# Altium footprint library LMZM23601V5SILR.PcbLib: 1 footprints
Each footprint in its own frame and in the unit in brackets; x right, y up, seen from the top. Pads: shape width x height; smd on the part's side, far side on the other; paste and mask are expansions set on the pad; w line width, h text height; cw(c..) or ccw(c..) is an arc to the next point about the centre after c.
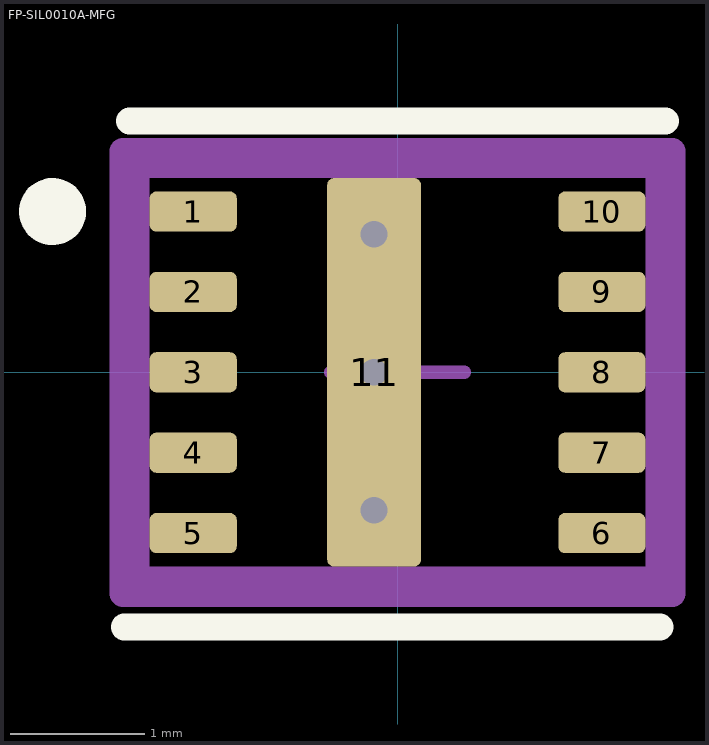
[diagram p0: the footprint, top view; thin cyan lines are the x and y axes]

## FP-SIL0010A-MFG [mm]
pads (11):
  rrect33% 0.65x0.3 smd paste+0 mask+0: 1(-1.525,1.2) 2(-1.525,0.6) 3(-1.525,0) 4(-1.525,-0.6) 5(-1.525,-1.2) 6(1.525,-1.2) 7(1.525,-0.6) 8(1.525,0) 9(1.525,0.6) 10(1.525,1.2)
  rrect14% 0.7x2.9 smd paste-1000 mask+0: 11(-0.175,0)
via -0.175,1.03 diameter 0.5 hole 0.2
via -0.175,0 diameter 0.5 hole 0.2
via -0.175,-1.03 diameter 0.5 hole 0.2
Top Overlay:
  circle w0.25: c-2.575,1.2 r0.125
  lines w0.2: -2.04,-1.9 1.96,-1.9 ; -2,1.875 2,1.875
Top Paste:
  region: 0.175,1.396 0.175,0.663 0.175,0.654 0.167,0.635 0.153,0.621 0.135,0.613 0.125,0.613 -0.475,0.613 -0.485,0.613 -0.503,0.621 -0.517,0.635 -0.525,0.654 -0.525,0.663 -0.525,1.396 -0.525,1.406 -0.517,1.425 -0.503,1.439 -0.485,1.446 -0.475,1.446 0.125,1.446 0.135,1.446 0.153,1.439 0.167,1.425 0.175,1.406
  region: -0.475,-0.416 -0.485,-0.416 -0.503,-0.409 -0.517,-0.395 -0.525,-0.376 -0.525,-0.366 -0.525,0.366 -0.525,0.376 -0.517,0.395 -0.503,0.409 -0.485,0.416 -0.475,0.416 0.125,0.416 0.135,0.416 0.153,0.409 0.167,0.395 0.175,0.376 0.175,0.366 0.175,-0.366 0.175,-0.376 0.167,-0.395 0.153,-0.409 0.135,-0.416 0.125,-0.416
  region: 0.175,-0.663 0.175,-1.396 0.175,-1.406 0.167,-1.425 0.153,-1.439 0.135,-1.446 0.125,-1.446 -0.475,-1.446 -0.485,-1.446 -0.503,-1.439 -0.517,-1.425 -0.525,-1.406 -0.525,-1.396 -0.525,-0.663 -0.525,-0.654 -0.517,-0.635 -0.503,-0.621 -0.485,-0.613 -0.475,-0.613 0.125,-0.613 0.135,-0.613 0.153,-0.621 0.167,-0.635 0.175,-0.654
Mechanical 5:
  lines w0.2: -2.05,-1.65 2.05,-1.65 2.05,1.65 -2.05,1.65 -2.05,-1.65
  text ".Designator" at 0,0.188 h1
Mechanical 13:
  lines w0.2: -1.95,-1.55 1.95,-1.55 1.95,1.55 -1.95,1.55 -1.95,-1.55
Mechanical 15:
  lines w0.2: -2.05,-1.65 2.05,-1.65 2.05,1.65 -2.05,1.65 -2.05,-1.65
Mechanical 16:
  lines w0.1: -0.5,0 0.5,0 ; 0,-0.5 0,0.5
3D body "UNK_Texas_Instruments_LMZM23600V5SILR_eec.STEP": height 0.25, standoff 0, extent -2.05,-1.65 2.05,1.65